# Altium footprint library 接线端子封装库.PcbLib: 73 footprints (part 5 of 5)
Each footprint in its own frame and in the unit in brackets; x right, y up, seen from the top. Pads: shape width x height; smd on the part's side, far side on the other; paste and mask are expansions set on the pad; w line width, h text height; cw(c..) or ccw(c..) is an arc to the next point about the centre after c.
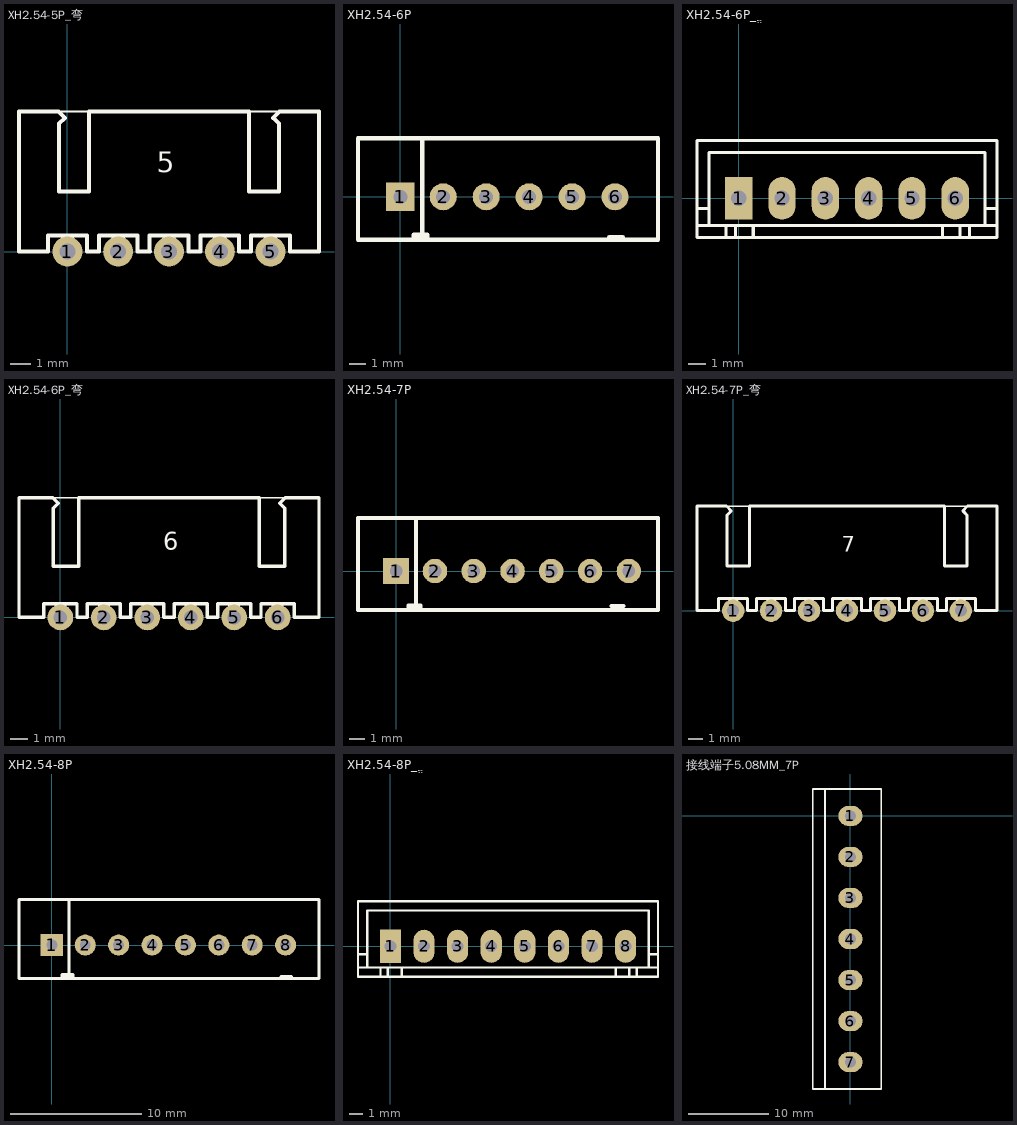
[diagram p4: the footprints below, top view; thin cyan lines are the x and y axes]

## XH2.54-5P_弯 [mm]
pads (5):
  round 1.5 hole 0.8: 1(0,0) 2(2.54,0) 3(5.08,0) 4(7.62,0) 5(10.16,0)
Top Overlay:
  lines w0.1: -0.46,7 1.08,7 ; 9.08,7 10.62,7
  lines w0.2: 4.11,0 4.11,0.8 6.05,0.8 6.05,0 6.65,0 6.65,0.8 8.59,0.8 8.59,0 9.19,0 9.19,0.8 11.13,0.8 11.13,0 12.58,0 12.58,7 10.61,7 10.29,6.68 10.3,6.67 10.35,6.62 10.58,6.39 10.58,3 9.08,3 9.08,7 1.08,7 1.08,3 -0.42,3 -0.42,6.39 -0.13,6.68 -0.45,7 -2.42,7 -2.42,0 -1.57,0 -1.27,0 -0.97,0 -0.97,0.8 0.97,0.8 0.97,0 1.57,0 1.57,0.8 3.51,0.8 3.51,0 4.12,0
  lines w0.762: 0,0 0,0.518 ; 2.54,0 2.54,0.518 ; 5.08,0 5.08,0.518 ; 7.62,0 7.62,0.518 ; 10.16,0 10.16,0.518
  text "5" at 4.47,3.97 h1.02

## XH2.54-6P [mm]
height 1.99
pads (6):
  rect 1.7x1.7 hole 0.83: 1(0,0)
  round 1.6 hole 0.83: 2(2.54,0) 3(5.08,0) 4(7.62,0) 5(10.16,0) 6(12.7,0)
Top Overlay:
  lines w0.254: 0.8,-2.54 0.8,-2.24 1.6,-2.24 1.6,-2.54 ; 0.85,-2.39 1.6,-2.39 ; 1.3,-2.39 1.3,3.46 ; 12.35,-2.54 13.15,-2.54 ; 12.35,-2.39 13.15,-2.39 ; -2.5,-2.54 15.24,-2.54 15.24,3.46 -2.5,3.46 -2.5,-2.54
3D body: height 7, standoff -3.4, extent -2.363,-2.367 15.037,3.383

## XH2.54-6P_ֱ [mm]
pads (6):
  rect 1.6x2.5 hole 0.9: 1(0,0)
  oval 1.6x2.5 hole 0.9: 2(2.54,0) 3(5.08,0) 4(7.62,0) 5(10.16,0) 6(12.7,0)
Top Overlay:
  lines w0.178: -2.45,-1.6 -1.75,-1.6 ; -2.45,-0.6 -1.75,-0.6 ; -2.45,3.4 -2.45,-2.3 15.15,-2.3 15.15,3.4 -2.44,3.4 ; -0.75,-2.3 -0.75,-1.6 ; -0.19,-2.29 -0.19,-1.6 ; 0.85,-2.3 0.85,-1.6 ; 11.95,-2.3 11.95,-1.6 ; 12.98,-2.3 12.98,-1.6 ; 13.55,-2.3 13.55,-1.6 ; 14.45,-0.6 15.15,-0.6 ; 15.15,-1.6 14.45,-1.6 ; -1.75,-1.6 14.45,-1.6 ; -1.75,-1.6 -1.75,2.7 14.45,2.7 14.45,-1.6

## XH2.54-6P_弯 [mm]
pads (6):
  round 1.5 hole 0.8: 1(0,0) 2(2.54,0) 3(5.08,0) 4(7.62,0) 5(10.16,0) 6(12.7,0)
Top Overlay:
  lines w0.1: -0.46,7 1.08,7 ; 11.62,7 13.16,7
  lines w0.2: 4.11,0 4.11,0.8 6.05,0.8 6.05,0 6.65,0 6.65,0.8 8.59,0.8 8.59,0 9.19,0 9.19,0.8 11.13,0.8 11.13,0 11.73,0 11.73,0.8 13.67,0.8 13.67,0 15.12,0 15.12,7 13.15,7 12.83,6.68 ; 4.12,0 3.51,0 3.51,0.8 1.57,0.8 1.57,0 0.97,0 0.97,0.8 -0.97,0.8 -0.97,0 -1.27,0 -1.57,0 -2.42,0 -2.42,7 -0.45,7 -0.13,6.68 -0.42,6.39 -0.42,3 1.08,3 1.08,7 11.62,7 11.62,3 13.12,3 13.12,6.39 12.89,6.62
  lines w0.762: 0,0 0,0.518 ; 2.54,0 2.54,0.518 ; 5.08,0 5.08,0.518 ; 7.62,0 7.62,0.518 ; 10.16,0 10.16,0.518 ; 12.7,0 12.7,0.518
  text "6" at 6,3.96 h1.02

## XH2.54-7P [mm]
height 1.99
pads (7):
  rect 1.7x1.7 hole 0.83: 1(0,0)
  round 1.6 hole 0.83: 2(2.54,0) 3(5.08,0) 4(7.62,0) 5(10.16,0) 6(12.7,0) 7(15.24,0)
Top Overlay:
  lines w0.254: 0.8,-2.54 0.8,-2.24 1.6,-2.24 1.6,-2.54 ; 0.85,-2.39 1.6,-2.39 ; 1.3,-2.39 1.3,3.46 ; 12.35,-2.54 13.15,-2.54 ; 14.097,-2.286 14.897,-2.286 ; -2.5,-2.54 -2.5,3.46 17.145,3.46 17.145,-2.54 -2.5,-2.54

## XH2.54-7P_弯 [mm]
pads (7):
  round 1.5 hole 0.8: 1(0,0) 2(2.54,0) 3(5.08,0) 4(7.62,0) 5(10.16,0) 6(12.7,0) 7(15.24,0)
Top Overlay:
  lines w0.1: -0.46,7 1.08,7 ; 14.16,7 15.7,7
  lines w0.2: 4.11,0 4.11,0.8 6.05,0.8 6.05,0 6.65,0 6.65,0.8 8.59,0.8 8.59,0 9.19,0 9.19,0.8 11.13,0.8 11.13,0 11.73,0 11.73,0.8 13.67,0.8 13.67,0 14.27,0 14.27,0.8 16.21,0.8 16.21,0 17.66,0 17.66,7 15.69,7 15.37,6.68 ; 4.12,0 3.51,0 3.51,0.8 1.57,0.8 1.57,0 0.97,0 0.97,0.8 -0.97,0.8 -0.97,0 -1.27,0 -1.57,0 -2.42,0 -2.42,7 -0.45,7 -0.13,6.68 -0.42,6.39 -0.42,3 1.08,3 1.08,7 14.16,7 14.16,3 15.66,3 15.66,6.39 15.43,6.62
  lines w0.762: 0,0 0,0.518 ; 2.54,0 2.54,0.518 ; 5.08,0 5.08,0.518 ; 7.62,0 7.62,0.518 ; 10.16,0 10.16,0.518 ; 12.7,0 12.7,0.518 ; 15.24,0 15.24,0.518
  text "7" at 7.27,3.96 h1.02

## XH2.54-8P [mm]
height 1.99
pads (8):
  rect 1.7x1.7 hole 0.83: 1(0,0)
  round 1.6 hole 0.83: 2(2.54,0) 3(5.08,0) 4(7.62,0) 5(10.16,0) 6(12.7,0) 7(15.24,0) 8(17.78,0)
Top Overlay:
  lines w0.254: 0.8,-2.54 0.8,-2.24 1.6,-2.24 1.6,-2.54 ; 0.85,-2.39 1.6,-2.39 ; 1.3,-2.39 1.3,3.46 ; 17.43,-2.54 18.23,-2.54 ; 17.43,-2.39 18.23,-2.39 ; -2.5,-2.54 -2.5,3.46 20.32,3.46 20.32,-2.54 -2.5,-2.54
3D body: height 7, standoff -3.4, extent -2.31,-2.35 20.09,3.4

## XH2.54-8P_ֱ [mm]
pads (8):
  rect 1.6x2.5 hole 0.9: 1(0,0)
  oval 1.6x2.5 hole 0.9: 2(2.54,0) 3(5.08,0) 4(7.62,0) 5(10.16,0) 6(12.7,0) 7(15.24,0) 8(17.78,0)
Top Overlay:
  lines w0.178: -2.45,-1.6 -1.75,-1.6 ; -2.45,-0.6 -1.75,-0.6 ; -2.45,3.4 -2.45,-2.3 20.23,-2.3 20.23,3.4 -2.44,3.4 ; -0.75,-2.3 -0.75,-1.6 ; -0.19,-2.29 -0.19,-1.6 ; 0.85,-2.3 0.85,-1.6 ; 17.03,-2.3 17.03,-1.6 ; 18.06,-2.3 18.06,-1.6 ; 18.63,-2.3 18.63,-1.6 ; 19.53,-0.6 20.23,-0.6 ; 20.23,-1.6 19.53,-1.6 ; -1.75,-1.6 19.53,-1.6 ; -1.75,-1.6 -1.75,2.7 19.53,2.7 19.53,-1.6

## 接线端子5.08MM_7P [mm] "町洋5.08PCB拔插式接线端子"
height 12
pads (7):
  oval 3x2.5 hole 1.4: 1(0,0) 2(0,-5.08) 3(0,-10.16) 4(0,-15.24) 5(0,-20.32) 6(0,-25.4) 7(0,-30.48)
Top Overlay:
  lines w0.2: 3.772,3.34 -4.67,3.34 -4.67,-33.82 3.81,-33.82 ; 3.8,-33.82 3.8,3.34
  lines w0.254: -3.175,-33.82 -3.175,3.34